# EAGLE library part TF (library Connector)
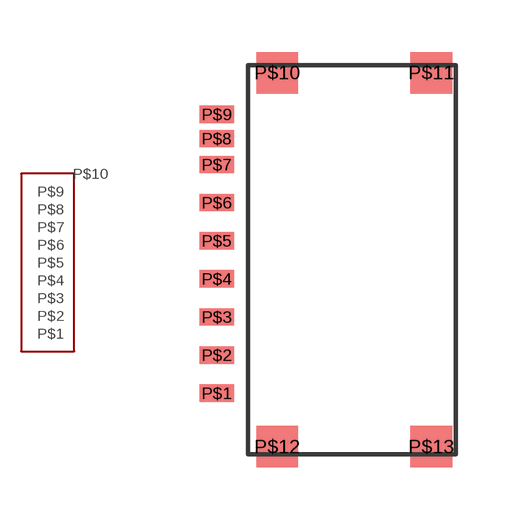
[diagram p4: symbol with the pads of TF_S; footprint TF_S]

Designator prefix -

## TF  [TF_S]
P$1  P$1
P$2  P$2
P$3  P$3
P$4  P$4
P$5  P$5
P$6  P$6
P$7  P$7
P$8  P$8
P$9  P$9
P$10  P$10
P$11  P$10
P$12  P$10
P$13  P$10

## Footprint TF_S (pad centres in mm)
smd 1 x 0.5: P$1 -0.5,-3.85; P$2 -0.5,-2.75; P$3 -0.5,-1.65; P$4 -0.5,-0.55; P$5 -0.5,0.55; P$6 -0.5,1.65; P$7 -0.5,2.75; P$8 -0.5,3.5; P$9 -0.5,4.2
smd 1.2 x 1.2: P$10 1.25,5.4; P$11 5.7,5.4; P$12 1.25,-5.4; P$13 5.7,-5.4